# Altium schematic symbol library Schlib1.SchLib: 12 symbols
Pins are listed as number, name and electrical type; pins without a type are passive.

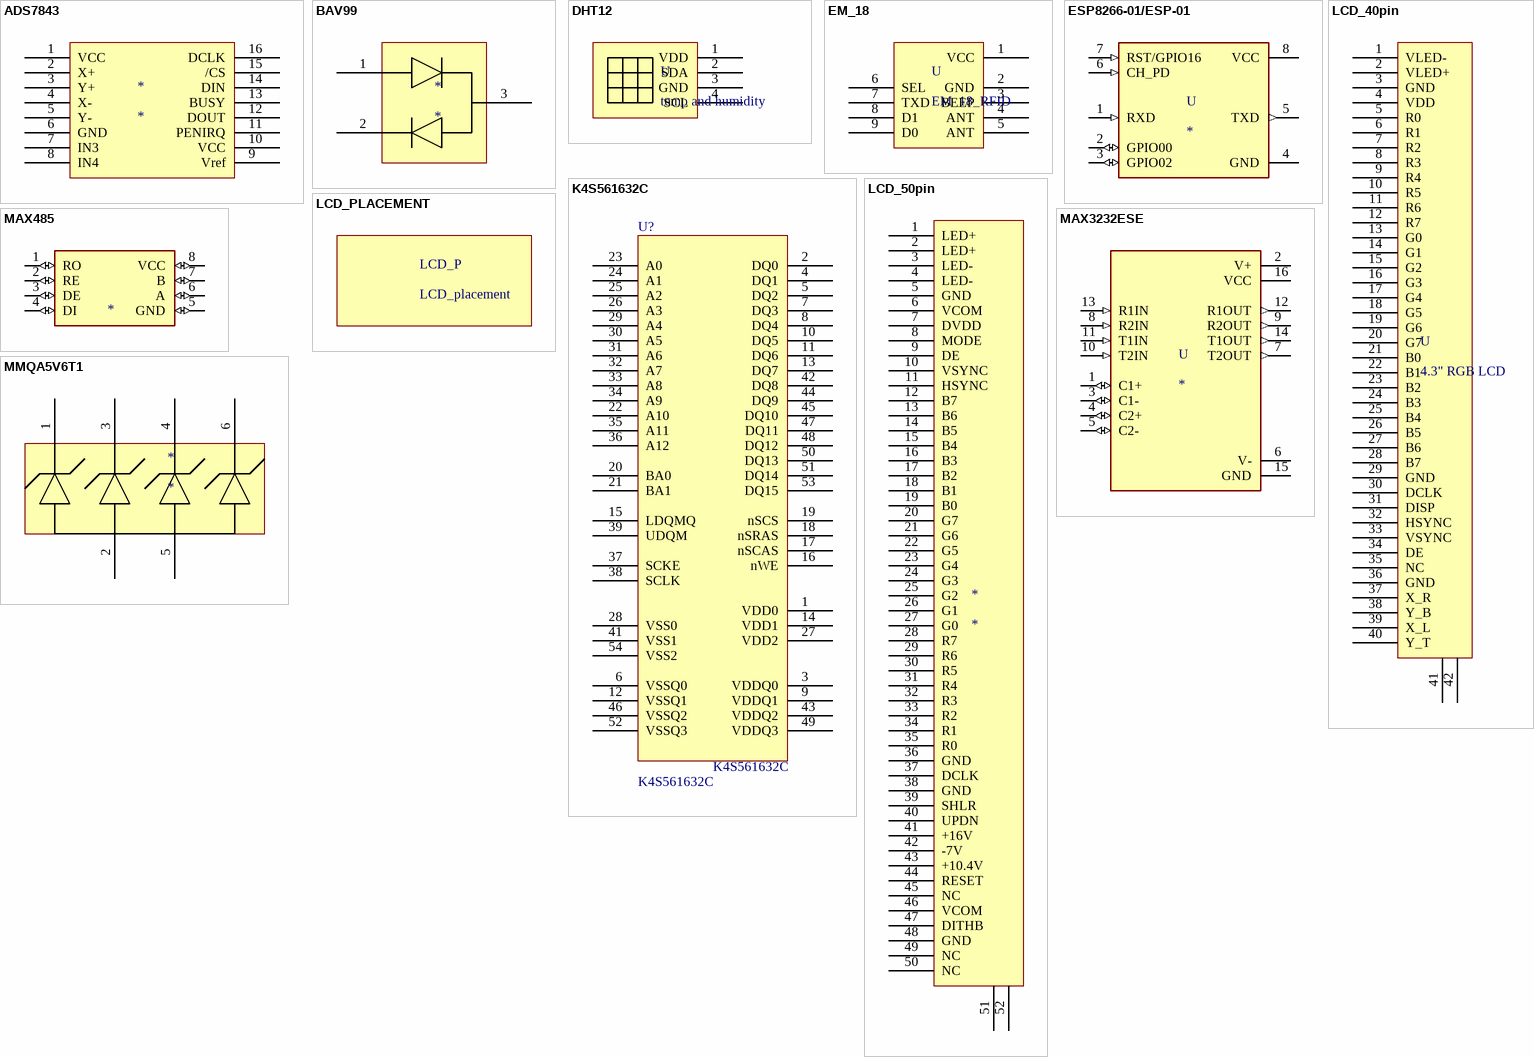
[diagram p0: symbols ADS7843 to MMQA5V6T1]

## ADS7843
designator *
footprint XPT
pins: 1 VCC, 2 X+, 3 Y+, 4 X-, 5 Y-, 6 GND, 7 IN3, 8 IN4, 9 Vref, 10 VCC, 11 PENIRQ, 12 DOUT, 13 BUSY, 14 DIN, 15 /CS, 16 DCLK

## BAV99
designator *
footprint SOT23_BEC_N (SOT23, 3-Leads, Body 2.9x1.3mm, Pitch 0.95mm, Lead Span 2.4mm, IPC Medium Density)
pins: 1, 2, 3

## DHT12
designator U, comment temp and humidity
footprint DHT22 (Footprint not found)
pins: 1 VDD, 2 SDA, 3 GND, 4 SCL

## EM_18
designator U, comment EM_18_RFID
RFID reader
pins: 1 VCC, 2 GND, 3 BEEP, 4 ANT, 5 ANT, 6 SEL, 7 TXD, 8 D1, 9 D0

## ESP8266-01/ESP-01
designator U
ESP-01 wifi module; MP: ESP8266-01/ESP-01; MF: AI-Thinker; Package: None; Availability: Unavailable; Value: *; SnapEDA_Link: https://www.snapeda.com/parts/ESP8266-01/ESP-01/AI-Thinker/view-part/106413/?ref=snap; Price: None
footprint XCVR_ESP8266-01/ESP-01
pins: 1 RXD (in), 2 GPIO00 (io), 3 GPIO02 (io), 4 GND (power), 5 TXD (out), 6 CH_PD (in), 7 RST/GPIO16 (in), 8 VCC (power)

## K4S561632C
designator U?
MT48LC16M16A2P or K4S561632C
footprint 54_TSOP2_400AF_L (54-Pin Small Outline Package 0.8 mm Pitch, IPC High Density)
footprint Model Name (Footprint not found)
footprint RAM
pins: 1 VDD0, 2 DQ0, 3 VDDQ0, 4 DQ1, 5 DQ2, 6 VSSQ0, 7 DQ3, 8 DQ4, 9 VDDQ1, 10 DQ5, 11 DQ6, 12 VSSQ1, 13 DQ7, 14 VDD1, 15 LDQMQ, 16 nWE, 17 nSCAS, 18 nSRAS, 19 nSCS, 20 BA0, 21 BA1, 22 A10, 23 A0, 24 A1, 25 A2, 26 A3, 27 VDD2, 28 VSS0, 29 A4, 30 A5, 31 A6, 32 A7, 33 A8, 34 A9, 35 A11, 36 A12, 37 SCKE, 38 SCLK, 39 UDQM, 41 VSS1, 42 DQ8, 43 VDDQ2, 44 DQ9, 45 DQ10, 46 VSSQ2, 47 DQ11, 48 DQ12, 49 VDDQ3, 50 DQ13, 51 DQ14, 52 VSSQ3, 53 DQ15, 54 VSS2

## LCD_40pin
designator U, comment 4.3" RGB LCD
footprint FPC40
pins: 1 VLED-, 2 VLED+, 3 GND, 4 VDD, 5 R0, 6 R1, 7 R2, 8 R3, 9 R4, 10 R5, 11 R6, 12 R7, 13 G0, 14 G1, 15 G2, 16 G3, 17 G4, 18 G5, 19 G6, 20 G7, 21 B0, 22 B1, 23 B2, 24 B3, 25 B4, 26 B5, 27 B6, 28 B7, 29 GND, 30 DCLK, 31 DISP, 32 HSYNC, 33 VSYNC, 34 DE, 35 NC, 36 GND, 37 X_R, 38 Y_B, 39 X_L, 40 Y_T, 41, 42

## LCD_50pin
designator *
footprint FPC50pin
pins: 1 LED+, 2 LED+, 3 LED-, 4 LED-, 5 GND, 6 VCOM, 7 DVDD, 8 MODE, 9 DE, 10 VSYNC, 11 HSYNC, 12 B7, 13 B6, 14 B5, 15 B4, 16 B3, 17 B2, 18 B1, 19 B0, 20 G7, 21 G6, 22 G5, 23 G4, 24 G3, 25 G2, 26 G1, 27 G0, 28 R7, 29 R6, 30 R5, 31 R4, 32 R3, 33 R2, 34 R1, 35 R0, 36 GND, 37 DCLK, 38 GND, 39 SHLR, 40 UPDN, 41 +16V, 42 -7V, 43 +10.4V, 44 RESET, 45 NC, 46 VCOM, 47 DITHB, 48 GND, 49 NC, 50 NC, 51, 52

## LCD_PLACEMENT
designator LCD_P, comment LCD_placement
footprint LCD_7"_placement

## MAX485
designator ?
1/1 Transceiver Half RS422, RS485 8-SOIC; MP: MAX485; MF: Maxim Integrated; SnapEDA_Link: https://www.snapeda.com/parts/MAX485/Maxim%20Integrated/view-part/493689/?ref=snap; Package: SOIC-8 Maxim Integrated; Value: *; Digi-Key_Part_Number: MAX485CSA+TCT-ND; Digi-Key_Purchase_URL: https://www.digikey.com/product-detail/en/maxim-integrated/MAX485CSA-T/MAX485CSA-TCT-ND/3894816?utm_source=snapeda&utm_medium=aggregator&utm_campaign=symbol
footprint SOIC8-Narrow (Footprint not found)
pins: 1 RO (io), 2 RE (io), 3 DE (io), 4 DI (io), 5 GND (io), 6 A (io), 7 B (io), 8 VCC (io)

## MAX3232ESE
designator U
2/2 Transceiver Full RS232 16-SO; MP: MAX3232ESE; MF: Maxim Integrated; SnapEDA_Link: https://www.snapeda.com/parts/MAX3232ESE/Maxim%20Integrated/view-part/991442/?ref=snap; Price: None; Package: None; Availability: Unavailable; Value: *
footprint SOIC16_M (Footprint not found)
pins: 1 C1+ (io), 2 V+ (power), 3 C1- (io), 4 C2+ (io), 5 C2- (io), 6 V- (power), 7 T2OUT (out), 8 R2IN (in), 9 R2OUT (out), 10 T2IN (in), 11 T1IN (in), 12 R1OUT (out), 13 R1IN (in), 14 T1OUT (out), 15 GND (power), 16 VCC (power)

## MMQA5V6T1
designator *
footprint SC70-6L
pins: 1 Cathode, 2 Cathode, 3 Cathode, 4 Cathode, 5 Cathode, 6 Cathode